# EAGLE library part LM311P (library my_devices)
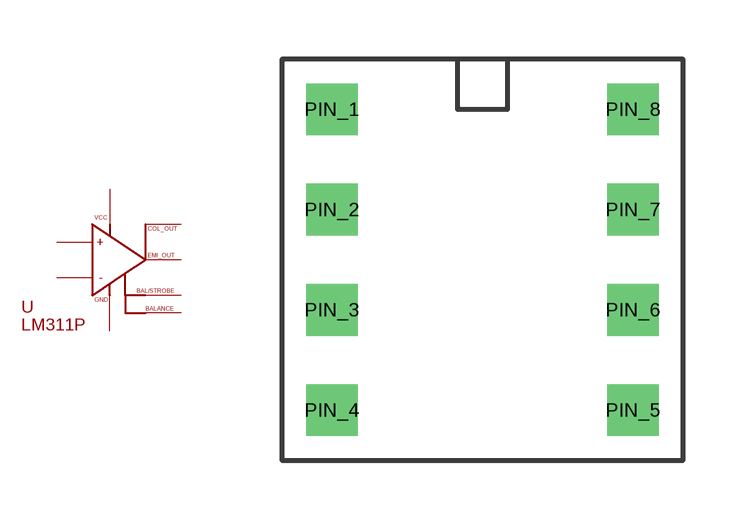
[diagram p8: symbol with the pads of DIP8; footprint DIP8]

Designator prefix U

## LM311P  [DIP8]
PIN_1  EMI_OUT  out
PIN_2  IN+  in
PIN_3  IN-  in
PIN_4  GND  pwr
PIN_5  BALANCE  in
PIN_6  BAL_STROBE  in
PIN_7  COL_OUT  out
PIN_8  VCC  pwr

## Footprint DIP8 (pad centres in mm)
drill 0.8 square: PIN_1 -3.81,3.81; PIN_2 -3.81,1.27; PIN_3 -3.81,-1.27; PIN_4 -3.81,-3.81; PIN_5 3.81,-3.81; PIN_6 3.81,-1.27; PIN_7 3.81,1.27; PIN_8 3.81,3.81